# Altium integrated library XFL4020-222MEC.IntLib: 1 symbol
Pins are listed as number, name and electrical type; pins without a type are passive.

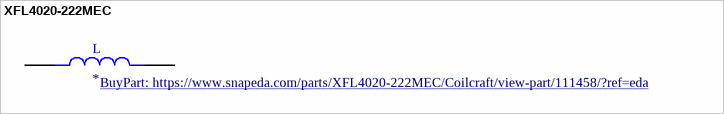
[diagram p0: symbol XFL4020-222MEC]

## XFL4020-222MEC
designator L
Power inductor, shielded, 20% tol, SMT, RoHS, halogen free; MF: Coilcraft; MP: XFL4020-222MEC; Package: None; Mouser-Purchase-URL: https://snapeda.com/shop?store=Mouser&id=111458; Price: None; Availability: Warning; SnapEDA_Link: https://www.snapeda.com/parts/XFL4020-222MEC/Coilcraft/view-part/111458/?ref=snap; Value: *; BuyPart: https://www.snapeda.com/parts/XFL4020-222MEC/Coilcraft/view-part/111458/?ref=eda
footprint IND_XFL4020-222MEC
pins: 1, 2